# Altium schematic symbol library Switch_TE_1825910-2_eec.SchLib: 1 symbol
Pins are listed as number, name and electrical type; pins without a type are passive.

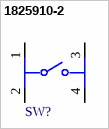
[diagram p0: symbol 1825910-2]

## 1825910-2
designator SW?  (value not drawn)
pins: 1, 2, 3, 4